# Altium schematic symbol library Ek_sembol.SchLib: 19 symbols
Pins are listed as number, name and electrical type; pins without a type are passive.

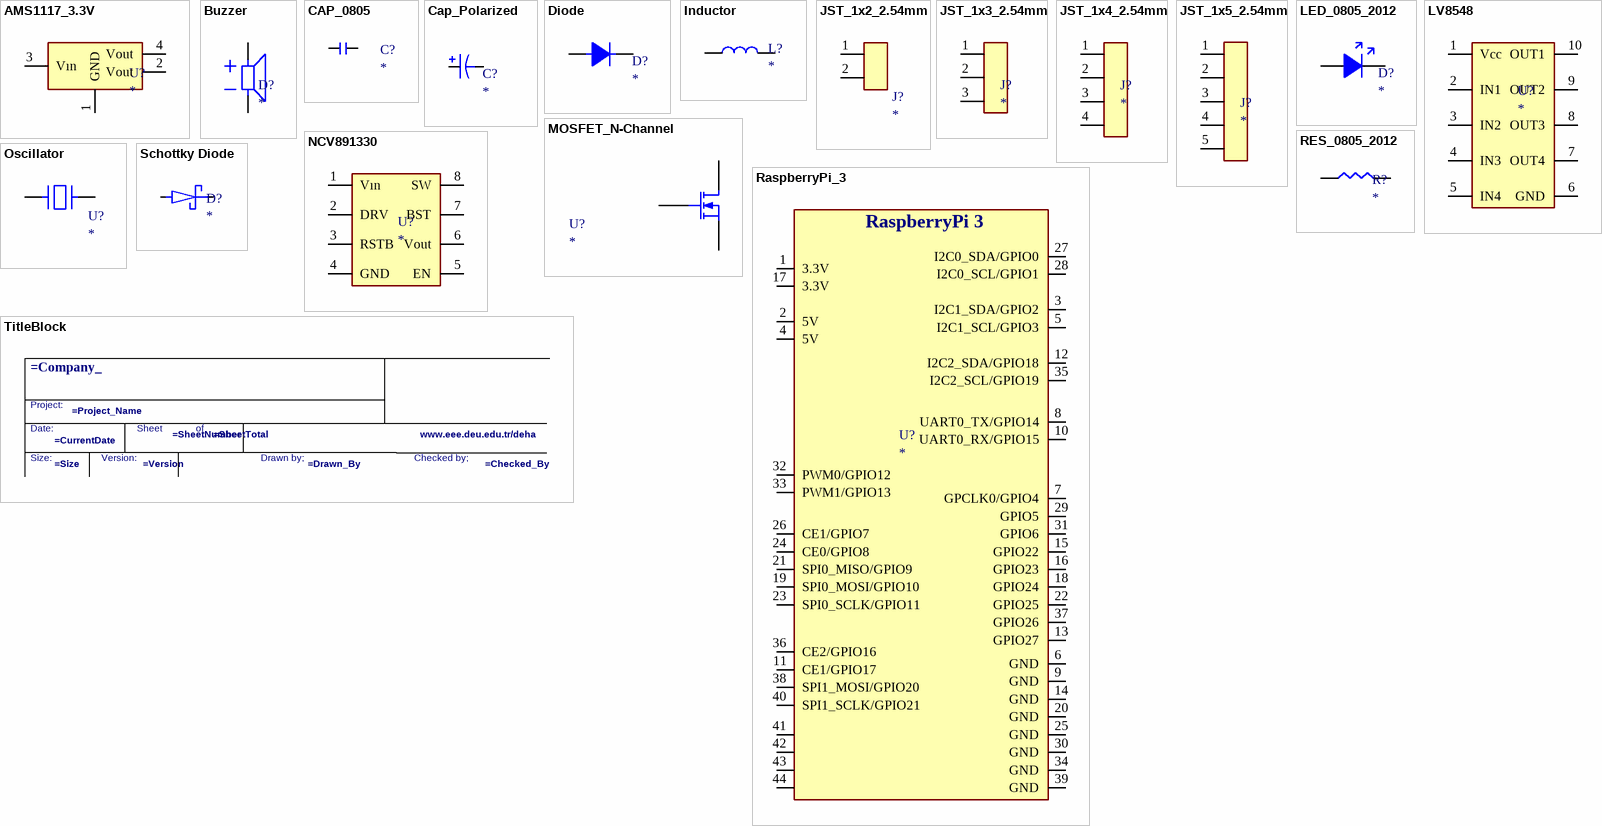
[diagram p0: symbols AMS1117_3.3V to TitleBlock]

## AMS1117_3.3V
designator U?
Linear Regulator.         3.3V,1A Output.                        SOT-223 Package.
footprint SOT223
pins: 1 GND, 2 Vout, 3 Vın, 4 Vout

## Buzzer
designator D?
Buzzer
footprint BUZZER
pins: 1, 2

## CAP_0805
designator C?
0805 Package SMD Capacitor
footprint CAP_0805
pins: 1 3, 2 4

## Cap_Polarized
designator C?
Polarized Capacitor 2.5mm pitch
footprint Cap_Pol_P-2.5mm
pins: 1, 2

## Diode
designator D?
SOD323 Package Diode.
footprint SOD323
pins: 1, 2

## Inductor
designator L?
footprint INDUCTOR
pins: 1, 2

## JST_1x2_2.54mm
designator J?
JST_1x2_2.54mm PCB Header
footprint JST_1x2_B2B_XH-A (JST_B2B_XH-A1x2 PCB Header)
pins: 1 0, 2 1

## JST_1x3_2.54mm
designator J?
JST_1x3_2.54mm PCB Header
footprint JST_1x3_B2B_XH-A
pins: 1 0, 2 1, 3

## JST_1x4_2.54mm
designator J?
JST_1x4_2.54mm PCB Header
footprint JST_1x4_B2B_XH-A
pins: 1 0, 2 1, 3, 4

## JST_1x5_2.54mm
designator J?
JST_1x5_2.54mm PCB Header
footprint JST_1x5_B2B_XH-A
pins: 1 0, 2 1, 3, 4, 5

## LED_0805_2012
designator D?
0805 Package SMD Led
footprint Led_0805
pins: 1 8, 2

## LV8548
designator U?
2-Channel Motor Driver.           SOIC-10 Package.
footprint SOIC10
pins: 1 Vcc, 2 IN1, 3 IN2, 4 IN3, 5 IN4, 6 GND, 7 OUT4, 8 OUT3, 9 OUT2, 10 OUT1

## MOSFET_N-Channel
designator U?
500mA,60V N-Channel Mosfet.
footprint SOT23
pins: 1 G, 2 S, 3 D

## NCV891330
designator U?
Switching Regulator.            5V, Max 3A Output.                         SOIC-8 Package.
footprint SOIC8
pins: 1 Vın, 2 DRV, 3 RSTB, 4 GND, 5 EN, 6 Vout, 7 BST, 8 SW

## Oscillator
designator U?
HC49 Package Oscillator
footprint HC49
pins: 1, 2

## RaspberryPi_3
designator U?
RaspberryPi 3+ Model B.
footprint Raspberry Pi 3 ModelB
pins: 1 3.3V, 2 5V, 3 I2C1_SDA/GPIO2, 4 5V, 5 I2C1_SCL/GPIO3, 6 GND, 7 GPCLK0/GPIO4, 8 UART0_TX/GPIO14, 9 GND, 10 UART0_RX/GPIO15, 11 CE1/GPIO17, 12 I2C2_SDA/GPIO18, 13 GPIO27, 14 GND, 15 GPIO22, 16 GPIO23, 17 3.3V, 18 GPIO24, 19 SPI0_MOSI/GPIO10, 20 GND, 21 SPI0_MISO/GPIO9, 22 GPIO25, 23 SPI0_SCLK/GPIO11, 24 CE0/GPIO8, 25 GND, 26 CE1/GPIO7, 27 I2C0_SDA/GPIO0, 28 I2C0_SCL/GPIO1, 29 GPIO5, 30 GND, 31 GPIO6, 32 PWM0/GPIO12, 33 PWM1/GPIO13, 34 GND, 35 I2C2_SCL/GPIO19, 36 CE2/GPIO16, 37 GPIO26, 38 SPI1_MOSI/GPIO20, 39 GND, 40 SPI1_SCLK/GPIO21, 41, 42, 43, 44
text: RaspberryPi 3

## RES_0805_2012
designator R?
0805 Package SMD Resistor
footprint RES_0805_2012
pins: 1 6, 2 7

## Schottky Diode
designator D?
1A,60V Schottky Diode
footprint Schotty Diode
pins: 1, 2

## TitleBlock
designator *  (value not drawn)  (graphical)
text: Project:; Date:; Sheet; of; www.eee.deu.edu.tr/deha; Size:; Version:; Drawn by;; Checked by;